# EAGLE library part LM1972 (library balto)
LM1972 uPot 2-Channel 78dB Audio Attenuator with Mute
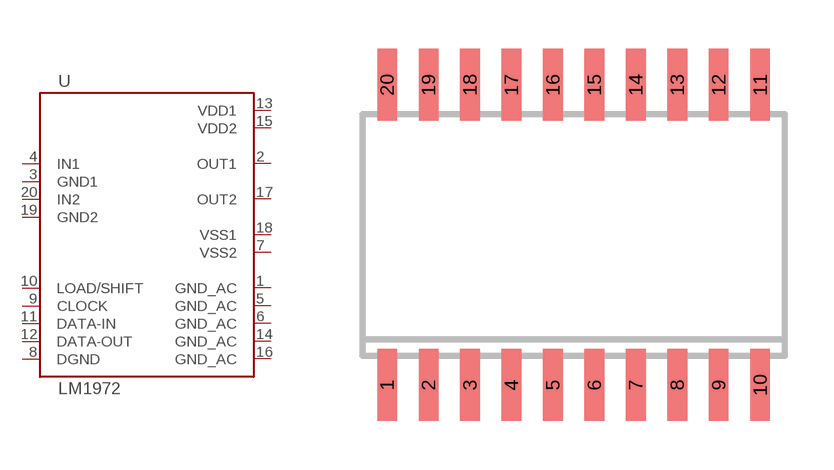
[diagram p46: symbol with the pads of SO20W; footprint SO20W]

Designator prefix U

## LM1972M  [SO20W]
1  GND_AC
2  OUT1
3  GND1
4  IN1
5  GND_AC
6  GND_AC
7  VSS2
8  DGND
9  CLOCK
10  LOAD/SHIFT
11  DATA-IN
12  DATA-OUT
13  VDD1
14  GND_AC
15  VDD2
16  GND_AC
17  OUT2
18  VSS1
19  GND2
20  IN2

## Footprint SO20W (pad centres in mm)
SMALL OUTLINE INTEGRATED CIRCUIT wide body 7.5 mm/JEDEC MS-013AC
smd 0.6 x 2.2: 1 -5.715,-4.6; 2 -4.445,-4.6; 3 -3.175,-4.6; 4 -1.905,-4.6; 5 -0.635,-4.6; 6 0.635,-4.6; 7 1.905,-4.6; 8 3.175,-4.6; 9 4.445,-4.6; 10 5.715,-4.6; 11 5.715,4.6; 12 4.445,4.6; 13 3.175,4.6; 14 1.905,4.6; 15 0.635,4.6; 16 -0.635,4.6; 17 -1.905,4.6; 18 -3.175,4.6; 19 -4.445,4.6; 20 -5.715,4.6